# Altium schematic symbol library LOOM - HV BOX.SchLib: 10 symbols
Pins are listed as number, name and electrical type; pins without a type are passive.

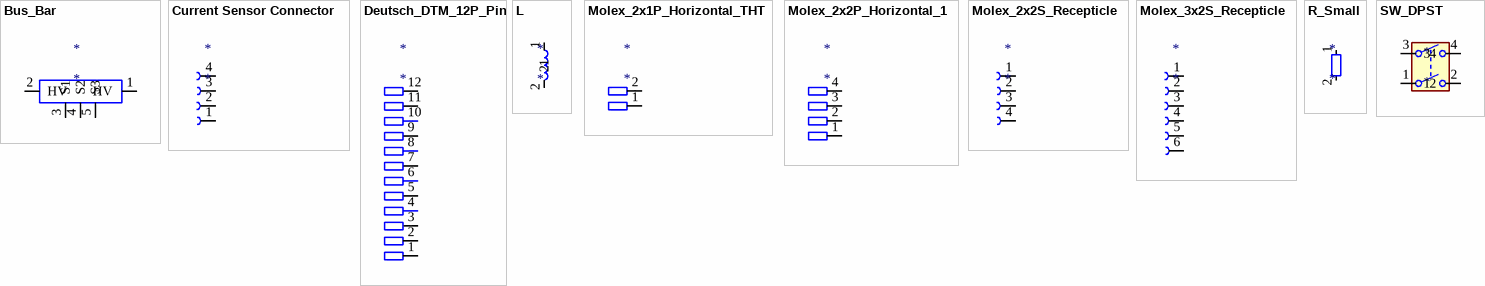
[diagram p0: symbols Bus_Bar to SW_DPST]

## Bus_Bar
designator *
pins: 1 HV, 2 HV, 3 S1, 4 S2, 5 S3

## Current Sensor Connector
designator *
pins: 1, 2, 3, 4

## Deutsch_DTM_12P_Pin
designator *
pins: 1, 2, 3, 4, 5, 6, 7, 8, 9, 10, 11, 12

## L
designator *
pins: 1, 2

## Molex_2x1P_Horizontal_THT
designator *
pins: 1, 2

## Molex_2x2P_Horizontal_1
designator *
pins: 1, 2, 3, 4

## Molex_2x2S_Recepticle
designator *
pins: 1, 2, 3, 4

## Molex_3x2S_Recepticle
designator *
pins: 1, 2, 3, 4, 5, 6

## R_Small
designator *
pins: 1, 2

## SW_DPST
designator *
pins: 1, 2, 3, 4